# EAGLE library part ARDUINO_R3_NOISP (library sparkfun_photon_temp)
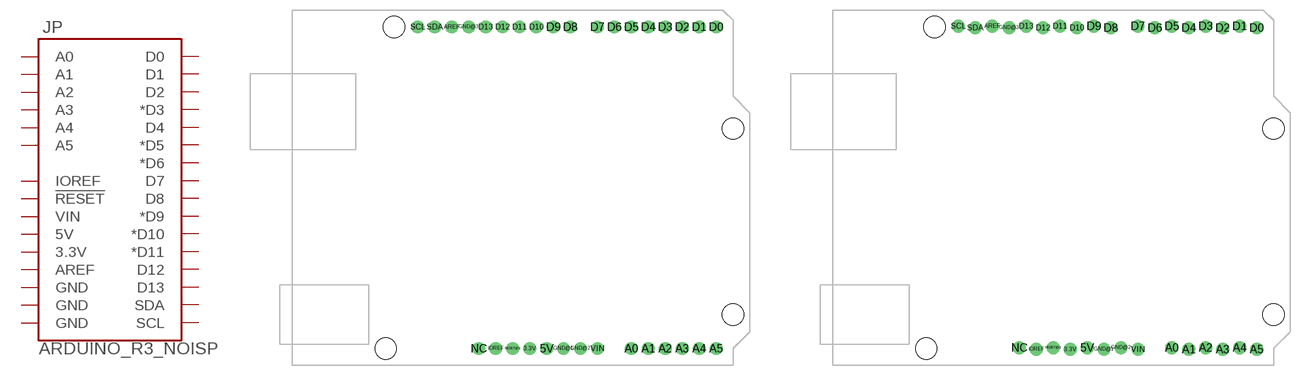
[diagram p1: symbol with the pads of ARDUINO_R3_NOISP; footprints ARDUINO_R3_NOISP, ARDUINO_R3_NOISP_LOCKING]

Designator prefix JP

## ARDUINO_R3_NOISP  [ARDUINO_R3_NOISP]
3.3V  3.3V
5V  5V
A0  A0
A1  A1
A2  A2
A3  A3
A4  A4
A5  A5
AREF  AREF
D0  D0
D1  D1
D2  D2
D3  *D3
D4  D4
D5  *D5
D6  *D6
D7  D7
D8  D8
D9  *D9
D10  *D10
D11  *D11
D12  D12
D13  D13
GND@1  GND
GND@2  GND
GND@3  GND
IOREF  IOREF
RESET@1  !RESET!
SCL  SCL
SDA  SDA
VIN  VIN

## ARDUINO_R3_NOISPLOCKING  [ARDUINO_R3_NOISP_LOCKING]
Pads as for ARDUINO_R3_NOISP

## Footprint ARDUINO_R3_NOISP (pad centres in mm)
drill 1.016 pad 1.93: 3.3V 35.56,2.54; 5V 38.1,2.54; A0 50.8,2.54; A1 53.34,2.54; A2 55.88,2.54; A3 58.42,2.54; A4 60.96,2.54; A5 63.5,2.54; AREF 23.876,50.8; D0 63.5,50.8; D1 60.96,50.8; D2 58.42,50.8; D3 55.88,50.8; D4 53.34,50.8; D5 50.8,50.8; D6 48.26,50.8; D7 45.72,50.8; D8 41.656,50.8; D9 39.116,50.8; D10 36.576,50.8; D11 34.036,50.8; D12 31.496,50.8; D13 28.956,50.8; GND@1 40.64,2.54; GND@2 43.18,2.54; GND@3 26.416,50.8; IOREF 30.48,2.54; NC 27.94,2.54; RESET@1 33.02,2.54; SCL 18.796,50.8; SDA 21.336,50.8; VIN 45.72,2.54
hole 3.175 at 15.24,50.8
hole 3.175 at 66.04,35.56
hole 3.175 at 66.04,7.62
hole 3.175 at 13.97,2.54

## Footprint ARDUINO_R3_NOISP_LOCKING (pad centres in mm)
drill 1.016 pad 1.93: 3.3V 35.56,2.413; 5V 38.1,2.667; A0 50.8,2.667; A1 53.34,2.413; A2 55.88,2.667; A3 58.42,2.413; A4 60.96,2.667; A5 63.5,2.413; AREF 23.876,50.927; D0 63.5,50.673; D1 60.96,50.927; D2 58.42,50.673; D3 55.88,50.927; D4 53.34,50.673; D5 50.8,50.927; D6 48.26,50.673; D7 45.72,50.927; D8 41.656,50.673; D9 39.116,50.927; D10 36.576,50.673; D11 34.036,50.927; D12 31.496,50.673; D13 28.956,50.927; GND@1 40.64,2.413; GND@2 43.18,2.667; GND@3 26.416,50.673; IOREF 30.48,2.413; NC 27.94,2.667; RESET@1 33.02,2.667; SCL 18.796,50.927; SDA 21.336,50.673; VIN 45.72,2.413
hole 3.175 at 15.24,50.8
hole 3.175 at 66.04,35.56
hole 3.175 at 66.04,7.62
hole 3.175 at 13.97,2.54